# Altium footprint library mw.PcbLib: 252 footprints (part 11 of 16)
Each footprint in its own frame and in the unit in brackets; x right, y up, seen from the top. Pads: shape width x height; smd on the part's side, far side on the other; paste and mask are expansions set on the pad; w line width, h text height; cw(c..) or ccw(c..) is an arc to the next point about the centre after c.
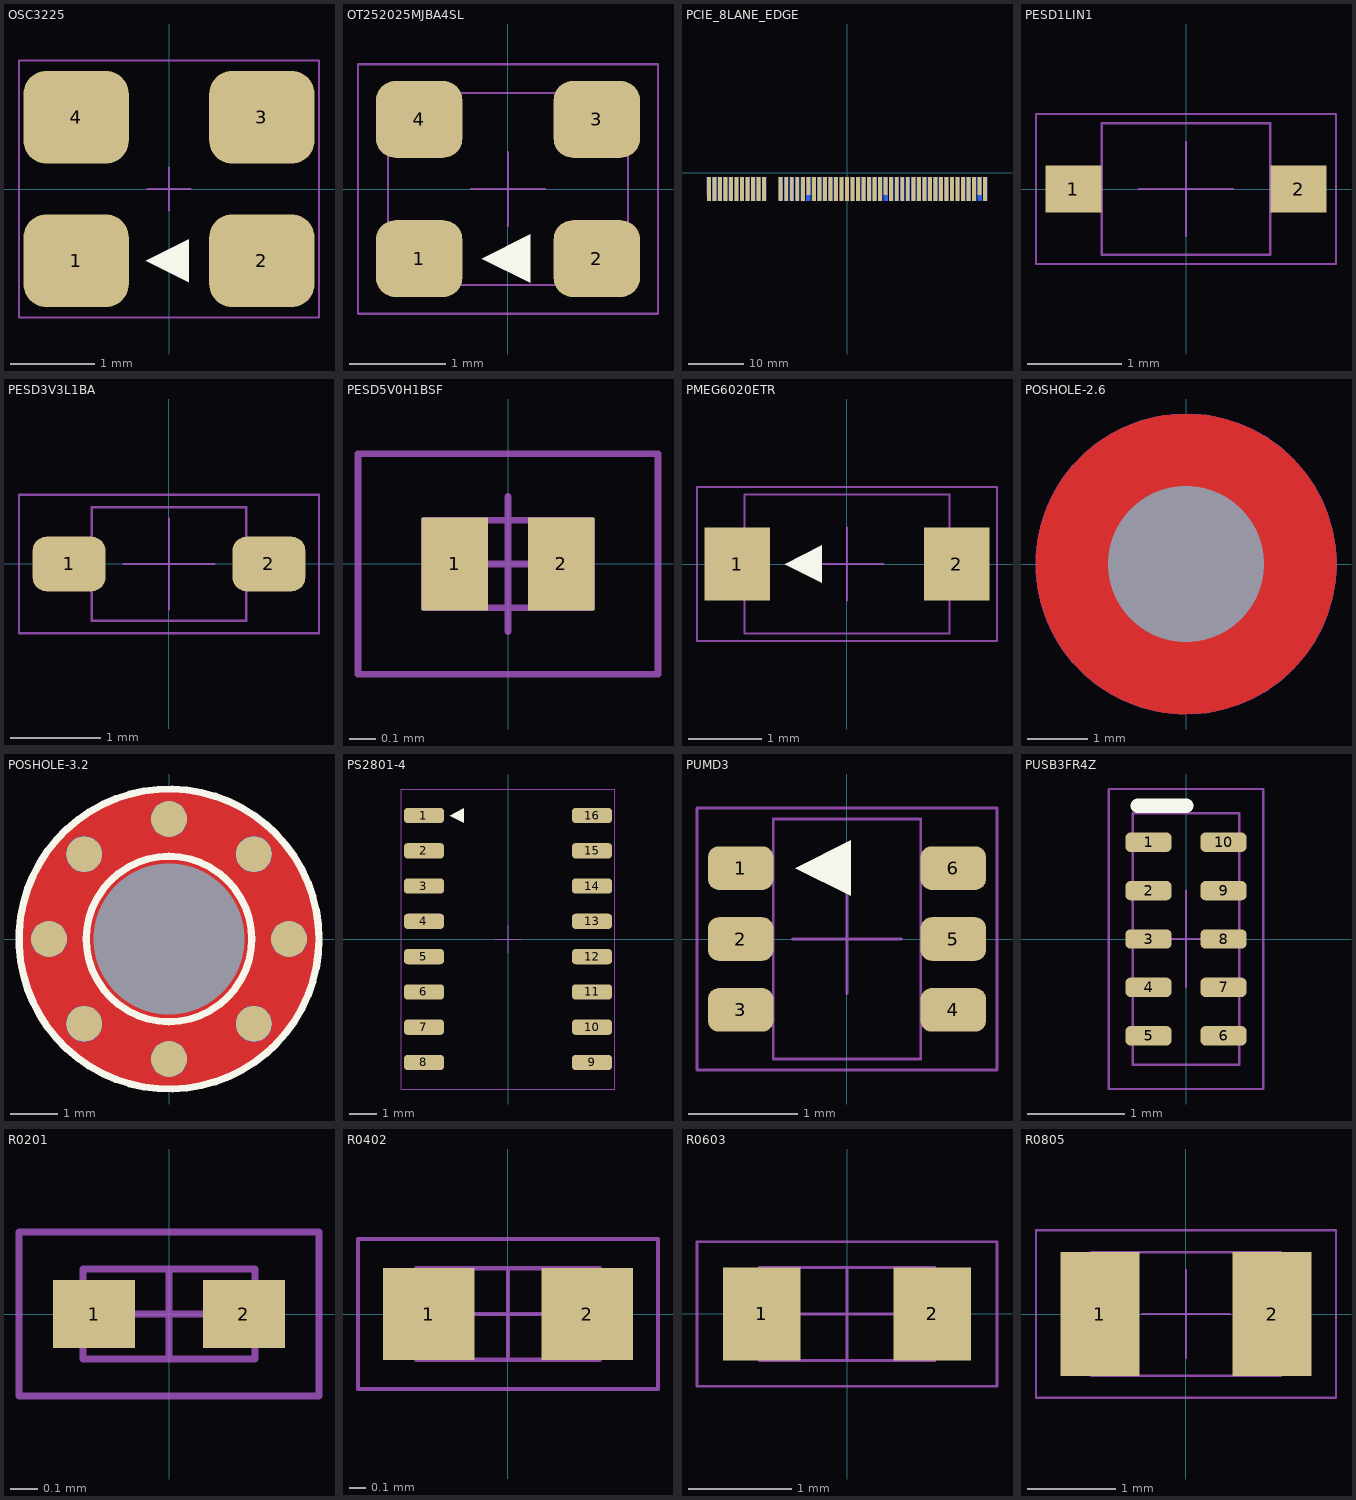
[diagram p10: the footprints below, top view; thin cyan lines are the x and y axes]

## OSC3225 [mm]
pads (4):
  rrect50% 1.25x1.1 smd: 1(-1.1,-0.85) 2(1.1,-0.85) 3(1.1,0.85) 4(-1.1,0.85)
Top Overlay:
  region: 0.233,-1.104 0.233,-0.596 -0.275,-0.85
Top Courtyard:
  lines w0.025: -0.254,0 0.254,0 ; 0,-0.254 0,0.254 ; -1.778,-1.524 -1.778,1.524 1.778,1.524 1.778,-1.524 -1.778,-1.524
3D body "3225.STEP": height 1.13, standoff 0, extent -1.6,-1.25 1.6,1.25

## OT252025MJBA4SL [mm]
pads (4):
  rrect50% 0.9x0.8 smd: 1(-0.925,-0.725) 2(0.925,-0.725) 3(0.925,0.725) 4(-0.925,0.725)
Top Overlay:
  region: 0.233,-0.979 0.233,-0.471 -0.275,-0.725
Top 3D Body (Mech13):
  lines w0.025: -1.25,-1 -1.25,1 1.25,1 1.25,-1 -1.25,-1
Top Courtyard:
  lines w0.025: -0.381,0 0.381,0 ; 0,-0.381 0,0.381 ; -1.562,-1.3 -1.562,1.3 1.563,1.3 1.563,-1.3 -1.562,-1.3
3D body "OT252025MJBA4SL.step": height 0.8, standoff 0, extent -1.25,-1 1.25,1

## PCIE_8LANE_EDGE [mil] "PCIE_8LANE_EDGE"
pads (98):
  rect 28x126 smd far side: A1(-984.25,-93.98)
  rect 28x169 smd far side: A2(-944.88,-115.48) A3(-905.51,-115.48) A4(-866.14,-115.48) A5(-826.77,-115.48) A6(-787.4,-115.48) A7(-748.03,-115.48) A8(-708.66,-115.48) A9(-669.29,-115.48) A10(-629.92,-115.48) A11(-590.55,-115.48) A12(-472.44,-115.48) A13(-433.07,-115.48) A14(-393.7,-115.48) A15(-354.33,-115.48) A16(-314.96,-115.48) A17(-275.59,-115.48) A18(-236.22,-115.48) A19(-196.85,-115.48) A20(-157.48,-115.48) A21(-118.11,-115.48) A22(-78.74,-115.48) A23(-39.37,-115.48) A24(0,-115.48) A25(39.37,-115.48) A26(78.74,-115.48) A27(118.11,-115.48) A28(157.48,-115.48) A29(196.85,-115.48) A30(236.22,-115.48) A31(275.59,-115.48) A32(314.96,-115.48) A33(354.33,-115.48) A34(393.7,-115.48) A35(433.07,-115.48) A36(472.44,-115.48) A37(511.81,-115.48) A38(551.18,-115.48) A39(590.55,-115.48) A40(629.92,-115.48) A41(669.29,-115.48) A42(708.66,-115.48) A43(748.03,-115.48) A44(787.4,-115.48) A45(826.77,-115.48) A46(866.14,-115.48) A47(905.51,-115.48) A48(944.88,-115.48) A49(984.25,-115.48)
  rect 28x169 smd: B1(-984.25,-115.48) B2(-944.88,-115.48) B3(-905.51,-115.48) B4(-866.14,-115.48) B5(-826.77,-115.48) B6(-787.4,-115.48) B7(-748.03,-115.48) B8(-708.66,-115.48) B9(-669.29,-115.48) B10(-629.92,-115.48) B11(-590.55,-115.48) B12(-472.44,-115.48) B13(-433.07,-115.48) B14(-393.7,-115.48) B15(-354.33,-115.48) B16(-314.96,-115.48) B18(-236.22,-115.48) B19(-196.85,-115.48) B20(-157.48,-115.48) B21(-118.11,-115.48) B22(-78.74,-115.48) B23(-39.37,-115.48) B24(0,-115.48) B25(39.37,-115.48) B26(78.74,-115.48) B27(118.11,-115.48) B28(157.48,-115.48) B29(196.85,-115.48) B30(236.22,-115.48) B32(314.96,-115.48) B33(354.33,-115.48) B34(393.7,-115.48) B35(433.07,-115.48) B36(472.44,-115.48) B37(511.81,-115.48) B38(551.18,-115.48) B39(590.55,-115.48) B40(629.92,-115.48) B41(669.29,-115.48) B42(708.66,-115.48) B43(748.03,-115.48) B44(787.4,-115.48) B45(826.77,-115.48) B46(866.14,-115.48) B47(905.51,-115.48) B49(984.25,-115.48)
  rect 28x126 smd: B17(-275.59,-93.98) B31(275.59,-93.98) B48(944.88,-93.98)

## PESD1LIN1 [mm] "SOIC, 2-Leads, Body 1.25x1.70mm, Pitch 1.27mm, IPC High Density"
height 1.1
pads (2):
  rect 0.6x0.5 smd: 1(-1.2,0) 2(1.2,0)
Top 3D Body (Mech13):
  lines w0.025: -0.9,-0.7 0.9,-0.7 0.9,0.7 -0.9,0.7 -0.9,-0.7
Top Courtyard:
  lines w0.025: -0.5,0 0.5,0 ; 0,-0.5 0,0.5 ; -1.6,-0.8 1.6,-0.8 1.6,0.8 -1.6,0.8 -1.6,-0.8
3D body "PESD1LIN1.step": height 1.1, standoff 0, extent -1.243,-0.7 1.243,0.7

## PESD3V3L1BA [mm] "TSOP, 2-Leads, Body 1.25x1.70mm, Pitch 0.80mm, IPC Medium Density"
height 1
pads (2):
  rrect50% 0.8x0.6 smd: 1(-1.1,0) 2(1.1,0)
Top 3D Body (Mech13):
  lines w0.025: -0.85,-0.625 0.85,-0.625 0.85,0.625 -0.85,0.625 -0.85,-0.625
Top Courtyard:
  lines w0.025: -0.5,0 0.5,0 ; 0,-0.5 0,0.5 ; -1.651,-0.762 -1.651,0.762 1.651,0.762 1.651,-0.762 -1.651,-0.762
3D body "PESD3V3L1BA.step": height 1, standoff 0, extent -1.274,-0.625 1.274,0.625

## PESD5V0H1BSF [mm] "DFN, 2-Leads, Body 0.30x0.60mm, Pitch 0.40mm, IPC Medium Density"
height 0.32
pads (2):
  rect 0.25x0.35 smd: 1(-0.2,0) 2(0.2,0)
Top 3D Body (Mech13):
  lines w0.025: -0.315,-0.165 -0.315,0.165 0.315,0.165 0.315,-0.165 -0.315,-0.165
Top Courtyard:
  lines w0.025: -0.254,0 0.254,0 ; 0,-0.254 0,0.254 ; -0.565,-0.415 -0.565,0.415 0.565,0.415 0.565,-0.415 -0.565,-0.415
3D body "PESD5V0H1BSF.step": height 0.32, standoff 0, extent -0.312,-0.162 0.312,0.162

## PMEG6020ETR [mm] "SODFL, 2-Leads, Body 1.70x3.50mm, IPC High Density"
height 1.1
pads (2):
  rect 0.9x1 smd: 1(-1.5,0) 2(1.5,0)
Top Overlay:
  region: -0.342,-0.254 -0.342,0.254 -0.85,0
Top 3D Body (Mech13):
  lines w0.025: -1.4,-0.95 -1.4,0.95 1.4,0.95 1.4,-0.95 -1.4,-0.95
Top Courtyard:
  lines w0.025: -0.5,0 0.5,0 ; 0,-0.5 0,0.5 ; -2.05,-1.05 -2.05,1.05 2.05,1.05 2.05,-1.05 -2.05,-1.05
3D body "PMEG6020ETR.step": height 1.1, standoff 0, extent -1.75,-0.95 1.75,0.95

## POSHOLE-2.6 [mm] "2.6mm hole"
pads (1):
  round 0 hole 2.6 unplated mask-2539.97: ""(0,0)
Top Layer:
  pour cut-out: 0,-2.5 -0.123,-2.5 -0.367,-2.476 -0.608,-2.428 -0.843,-2.357 -1.07,-2.263 -1.287,-2.147 -1.491,-2.01 -1.681,-1.855 -1.855,-1.681 -2.01,-1.491 -2.147,-1.287 -2.263,-1.07 -2.357,-0.843 -2.428,-0.608 -2.476,-0.367 -2.5,-0.123 -2.5,0 -2.5,0.123 -2.476,0.367 -2.428,0.608 -2.357,0.843 -2.263,1.07 -2.147,1.287 -2.01,1.491 -1.855,1.681 -1.681,1.855 -1.491,2.01 -1.287,2.147 -1.07,2.263 -0.843,2.357 -0.608,2.428 -0.367,2.476 -0.123,2.5 0,2.5 0.123,2.5 0.367,2.476 0.608,2.428 0.843,2.357 1.07,2.263 1.287,2.147 1.491,2.01 1.681,1.855 1.855,1.681 2.01,1.491 2.147,1.287 2.263,1.07 2.357,0.843 2.428,0.608 2.476,0.367 2.5,0.123 2.5,0 2.5,-0.123 2.476,-0.367 2.428,-0.608 2.357,-0.843 2.263,-1.07 2.147,-1.287 2.01,-1.491 1.855,-1.681 1.681,-1.855 1.491,-2.01 1.287,-2.147 1.07,-2.263 0.843,-2.357 0.608,-2.428 0.367,-2.476 0.123,-2.5
Bottom Layer:
  pour cut-out: 0,-2.5 -0.123,-2.5 -0.367,-2.476 -0.608,-2.428 -0.843,-2.357 -1.07,-2.263 -1.287,-2.147 -1.491,-2.01 -1.681,-1.855 -1.855,-1.681 -2.01,-1.491 -2.147,-1.287 -2.263,-1.07 -2.357,-0.843 -2.428,-0.608 -2.476,-0.367 -2.5,-0.123 -2.5,0 -2.5,0.123 -2.476,0.367 -2.428,0.608 -2.357,0.843 -2.263,1.07 -2.147,1.287 -2.01,1.491 -1.855,1.681 -1.681,1.855 -1.491,2.01 -1.287,2.147 -1.07,2.263 -0.843,2.357 -0.608,2.428 -0.367,2.476 -0.123,2.5 0,2.5 0.123,2.5 0.367,2.476 0.608,2.428 0.843,2.357 1.07,2.263 1.287,2.147 1.491,2.01 1.681,1.855 1.855,1.681 2.01,1.491 2.147,1.287 2.263,1.07 2.357,0.843 2.428,0.608 2.476,0.367 2.5,0.123 2.5,0 2.5,-0.123 2.476,-0.367 2.428,-0.608 2.357,-0.843 2.263,-1.07 2.147,-1.287 2.01,-1.491 1.855,-1.681 1.681,-1.855 1.491,-2.01 1.287,-2.147 1.07,-2.263 0.843,-2.357 0.608,-2.428 0.367,-2.476 0.123,-2.5
Top Solder:
  circle w2.5: c0,0 r1.25
Bottom Solder:
  circle w2.5: c0,0 r1.25
Internal Plane 1:
  pour cut-out: 0,-2.5 -0.123,-2.5 -0.367,-2.476 -0.608,-2.428 -0.843,-2.357 -1.07,-2.263 -1.287,-2.147 -1.491,-2.01 -1.681,-1.855 -1.855,-1.681 -2.01,-1.491 -2.147,-1.287 -2.263,-1.07 -2.357,-0.843 -2.428,-0.608 -2.476,-0.367 -2.5,-0.123 -2.5,0 -2.5,0.123 -2.476,0.367 -2.428,0.608 -2.357,0.843 -2.263,1.07 -2.147,1.287 -2.01,1.491 -1.855,1.681 -1.681,1.855 -1.491,2.01 -1.287,2.147 -1.07,2.263 -0.843,2.357 -0.608,2.428 -0.367,2.476 -0.123,2.5 0,2.5 0.123,2.5 0.367,2.476 0.608,2.428 0.843,2.357 1.07,2.263 1.287,2.147 1.491,2.01 1.681,1.855 1.855,1.681 2.01,1.491 2.147,1.287 2.263,1.07 2.357,0.843 2.428,0.608 2.476,0.367 2.5,0.123 2.5,0 2.5,-0.123 2.476,-0.367 2.428,-0.608 2.357,-0.843 2.263,-1.07 2.147,-1.287 2.01,-1.491 1.855,-1.681 1.681,-1.855 1.491,-2.01 1.287,-2.147 1.07,-2.263 0.843,-2.357 0.608,-2.428 0.367,-2.476 0.123,-2.5
Top Courtyard:
  circle w0.025: c0,0 r2.5
  lines w0.025: -0.508,0 0.508,0 ; 0,-0.508 0,0.508

## POSHOLE-3.2 [mil] "3.2mm hole"
pads (17):
  round 30 smd: ""(-100,0) ""(-70.71,-70.71) ""(-70.71,70.71) ""(0,-100) ""(0,100) ""(70.71,-70.71) ""(70.71,70.71) ""(100,0)
  round 30 smd far side: ""(-100,0) ""(-70.71,-70.71) ""(-70.71,70.71) ""(0,-100) ""(0,100) ""(70.71,-70.71) ""(70.71,70.71) ""(100,0)
  round 0 hole 125.98 unplated: ""(0,0)
Top Layer:
  pour cut-out: 0,-125 -8.19,-125 -24.44,-122.86 -40.27,-118.62 -55.4,-112.35 -69.6,-104.16 -82.59,-94.18 -94.18,-82.59 -104.16,-69.6 -112.35,-55.4 -118.62,-40.27 -122.86,-24.44 -125,-8.19 -125,0 -125,8.19 -122.86,24.44 -118.62,40.27 -112.35,55.4 -104.16,69.6 -94.18,82.59 -82.59,94.18 -69.6,104.16 -55.4,112.35 -40.27,118.62 -24.44,122.86 -8.19,125 0,125 8.19,125 24.44,122.86 40.27,118.62 55.4,112.35 69.6,104.16 82.59,94.18 94.18,82.59 104.16,69.6 112.35,55.4 118.62,40.27 122.86,24.44 125,8.19 125,0 125,-8.19 122.86,-24.44 118.62,-40.27 112.35,-55.4 104.16,-69.6 94.18,-82.59 82.59,-94.18 69.6,-104.16 55.4,-112.35 40.27,-118.62 24.44,-122.86 8.19,-125
Bottom Layer:
  pour cut-out: 0,-125 -8.19,-125 -24.44,-122.86 -40.27,-118.62 -55.4,-112.35 -69.6,-104.16 -82.59,-94.18 -94.18,-82.59 -104.16,-69.6 -112.35,-55.4 -118.62,-40.27 -122.86,-24.44 -125,-8.19 -125,0 -125,8.19 -122.86,24.44 -118.62,40.27 -112.35,55.4 -104.16,69.6 -94.18,82.59 -82.59,94.18 -69.6,104.16 -55.4,112.35 -40.27,118.62 -24.44,122.86 -8.19,125 0,125 8.19,125 24.44,122.86 40.27,118.62 55.4,112.35 69.6,104.16 82.59,94.18 94.18,82.59 104.16,69.6 112.35,55.4 118.62,40.27 122.86,24.44 125,8.19 125,0 125,-8.19 122.86,-24.44 118.62,-40.27 112.35,-55.4 104.16,-69.6 94.18,-82.59 82.59,-94.18 69.6,-104.16 55.4,-112.35 40.27,-118.62 24.44,-122.86 8.19,-125
Top Overlay:
  circle w6: c0,0 r68.9
  circle w6: c0,0 r125
Bottom Overlay:
  circle w6: c0,0 r125
  circle w6: c0,0 r68.9
Top Courtyard:
  circle w1: c0,0 r125
  lines w1: -20,0 20,0 ; 0,-20 0,20

## PS2801-4 [mm] "SOP, 16-Leads, Body 10.28x4.40mm, Pitch 1.27mm, IPC High Density"
height 2.2
pads (16):
  rrect50% 1.45x0.55 smd: 1(-3.025,4.445) 2(-3.025,3.175) 3(-3.025,1.905) 4(-3.025,0.635) 5(-3.025,-0.635) 6(-3.025,-1.905) 7(-3.025,-3.175) 8(-3.025,-4.445) 9(3.025,-4.445) 10(3.025,-3.175) 11(3.025,-1.905) 12(3.025,-0.635) 13(3.025,0.635) 14(3.025,1.905) 15(3.025,3.175) 16(3.025,4.445)
Top Overlay:
  region: -1.592,4.191 -1.592,4.699 -2.1,4.445
Top Courtyard:
  lines w0.025: -0.5,0 0.5,0 ; 0,-0.5 0,0.5 ; -3.85,-5.4 3.85,-5.4 3.85,5.4 -3.85,5.4 -3.85,-5.4

## PUMD3 [mm] "SOT23, 6-Leads, Body 2.00x2.10mm, Pitch 0.65mm, IPC High Density"
height 1.1
pads (6):
  rrect50% 0.6x0.4 smd: 1(-0.975,0.65) 2(-0.975,0) 3(-0.975,-0.65) 4(0.975,-0.65) 5(0.975,0) 6(0.975,0.65)
Top Overlay:
  region: 0.033,0.396 0.033,0.904 -0.475,0.65
Top 3D Body (Mech13):
  lines w0.025: -0.675,-1.1 0.675,-1.1 0.675,1.1 -0.675,1.1 -0.675,-1.1
Top Courtyard:
  lines w0.025: -0.5,0 0.5,0 ; 0,-0.5 0,0.5 ; -1.375,-1.2 1.375,-1.2 1.375,1.2 -1.375,1.2 -1.375,-1.2
3D body "PUMD3.step": height 1.1, standoff 0, extent -1.15,-1.1 1.15,1.1

## PUSB3FR4Z [mm] "PSON, 10-Leads, Body 2.50x1.00mm, Pitch 0.50mm, IPC Medium Density"
height 0.5
pads (10):
  rrect50% 0.475x0.2 smd: 1(-0.387,1) 2(-0.387,0.5) 3(-0.387,0) 4(-0.387,-0.5) 5(-0.387,-1) 6(0.387,-1) 7(0.387,-0.5) 8(0.387,0) 9(0.387,0.5) 10(0.387,1)
Top Overlay:
  lines w0.152: -0.499,1.376 0.001,1.376
Top 3D Body (Mech13):
  lines w0.025: -0.55,-1.3 0.55,-1.3 0.55,1.3 -0.55,1.3 -0.55,-1.3
Top Courtyard:
  lines w0.025: -0.5,0 0.5,0 ; 0,-0.5 0,0.5 ; -0.8,-1.55 0.8,-1.55 0.8,1.55 -0.8,1.55 -0.8,-1.55
3D body "PUSB3FR4Z.step": height 0.5, standoff 0, extent -0.551,-1.3 0.551,1.3

## R0201 [mm] "Chip Resistor, 2-Leads, Body 0.60x0.30mm, IPC High Density"
height 0.26
pads (2):
  rect 0.3x0.25 smd: 1(-0.275,0) 2(0.275,0)
Top 3D Body (Mech13):
  lines w0.025: -0.315,-0.165 0.315,-0.165 0.315,0.165 -0.315,0.165 -0.315,-0.165
Top Courtyard:
  lines w0.025: -0.165,0 0.165,0 ; 0,-0.165 0,0.165 ; -0.55,-0.3 0.55,-0.3 0.55,0.3 -0.55,0.3 -0.55,-0.3
3D body "RESC0603X03L.step": height 0.26, standoff 0, extent -0.315,-0.165 0.315,0.165

## R0402 [mm] "Chip Resistor, 2-Leads, Body 1.00x0.50mm, IPC Medium Density"
height 0.4
pads (2):
  rect 0.55x0.55 smd: 1(-0.475,0) 2(0.475,0)
Top 3D Body (Mech13):
  lines w0.025: -0.55,-0.275 -0.55,0.275 0.55,0.275 0.55,-0.275 -0.55,-0.275
Top Courtyard:
  lines w0.025: -0.275,0 0.275,0 ; 0,-0.275 0,0.275 ; -0.9,-0.45 -0.9,0.45 0.9,0.45 0.9,-0.45 -0.9,-0.45
3D body "RESC1005X04N.step": height 0.4, standoff 0, extent -0.55,-0.275 0.55,0.275

## R0603 [mm] "Chip Resistor, 2-Leads, Body 1.60x0.80mm, IPC Medium Density"
height 0.55
pads (2):
  rect 0.75x0.9 smd: 1(-0.825,0) 2(0.825,0)
Top 3D Body (Mech13):
  lines w0.025: -0.85,-0.45 -0.85,0.45 0.85,0.45 0.85,-0.45 -0.85,-0.45
Top Courtyard:
  lines w0.025: -0.45,0 0.45,0 ; 0,-0.45 0,0.45 ; -1.45,-0.7 -1.45,0.7 1.45,0.7 1.45,-0.7 -1.45,-0.7
3D body "RESC1608X06N.step": height 0.55, standoff 0, extent -0.85,-0.45 0.85,0.45

## R0805 [mm] "Chip Resistor, 2-Leads, Body 2.00x1.27mm, IPC Medium Density"
height 0.65
pads (2):
  rect 0.9x1.4 smd: 1(-0.975,0) 2(0.975,0)
Top 3D Body (Mech13):
  lines w0.025: -1.075,-0.7 1.075,-0.7 1.075,0.7 -1.075,0.7 -1.075,-0.7
Top Courtyard:
  lines w0.025: -0.5,0 0.5,0 ; 0,-0.5 0,0.5 ; -1.7,-0.95 1.7,-0.95 1.7,0.95 -1.7,0.95 -1.7,-0.95
3D body "RESC2013X06N.step": height 0.65, standoff 0, extent -1.075,-0.7 1.075,0.7